# Altium footprint library 温控PCB_0617F.PcbLib: 22 footprints (part 1 of 2)
Each footprint in its own frame and in the unit in brackets; x right, y up, seen from the top. Pads: shape width x height; smd on the part's side, far side on the other; paste and mask are expansions set on the pad; w line width, h text height; cw(c..) or ccw(c..) is an arc to the next point about the centre after c.
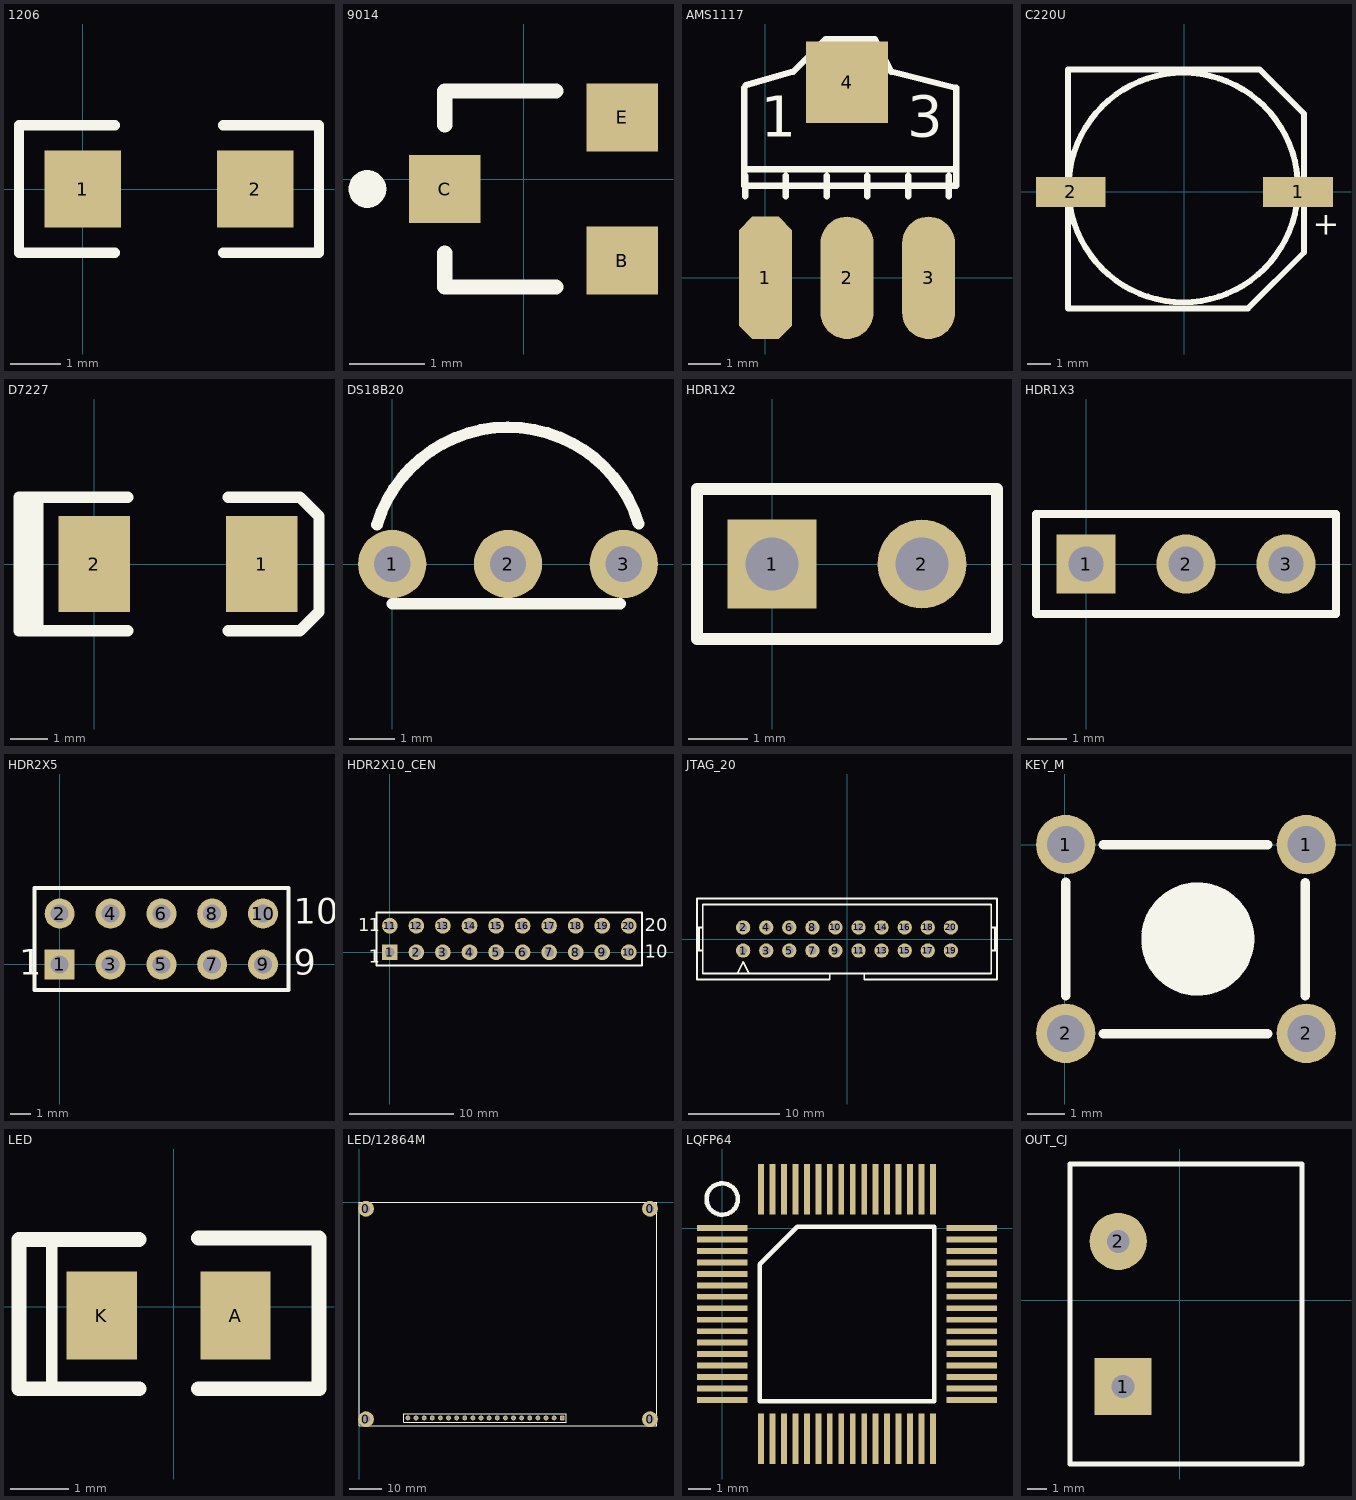
[diagram p0: the footprints below, top view; thin cyan lines are the x and y axes]

## 1206 [mil]
pads (2):
  rect 60x60 smd: 1(0,0) 2(135,0)
Top Overlay:
  lines w8: 25,-50 -50,-50 -50,50 25,50 ; 110,-50 185,-50 185,50 110,50

## 9014 [mm]
pads (3):
  rect 0.95x0.9 smd: B(1.302,-1.077) C(-1.048,-0.127) E(1.302,0.823)
Top Overlay:
  circle w0.25: c-2.073,-0.127 r0.125
  lines w0.2: -1.048,-0.977 -1.048,-1.427 0.427,-1.427 ; -1.048,0.723 -1.048,1.173 0.427,1.173

## AMS1117 [mil]
pads (4):
  oct 65x150 smd: 1(0.03,-0.06)
  oval 65x150 smd: 2(100.03,-0.06) 3(200.03,-0.06)
  rect 100x100 smd: 4(100.03,239.94)
Top Overlay:
  lines w7.87: -25.97,232.94 -25.97,132.94 ; -24.97,99.94 -24.97,124.94 ; -24.3,236.27 34.03,252.94 74.03,292.94 134.03,292.94 154.03,252.94 234.03,232.94 234.03,112.94 ; 25.03,99.94 25.03,124.94 ; 75.03,99.94 75.03,124.94 ; 125.03,99.94 125.03,124.94 ; 175.03,99.94 175.03,124.94 ; 225.03,99.94 225.03,124.94 ; -25.97,132.94 -25.97,112.94 234.03,112.94 ; -25.97,132.94 234.03,132.94 234.03,112.94
  text "1" at -5.97,172.94 h50
  text "3" at 174.03,172.94 h50

## C220U [mm]
pads (2):
  rect 3x1.3 smd: 1(4.889,0) 2(-4.889,0)
Top Overlay:
  circle w0.254: c-0.05,0.191 r4.94
  lines w0.254: -5.016,-5.016 2.603,-5.016 2.73,-5.016 5.143,-2.603 5.143,3.365 3.238,5.271 -5.016,5.271 -5.016,-5.016
  text "+" at 5.524,-1.841 h1

## D7227 [mm]
height 12.8
pads (2):
  rect 1.905x2.54 smd: 1(4.445,0) 2(0,0)
Top Overlay:
  lines w0.305: -1.8,-1.778 -1.8,1.778 ; -1.5,-1.778 -1.5,1.778 ; 0.889,-1.778 -2,-1.778 -2,1.778 0.889,1.778 ; 3.556,-1.778 5.461,-1.778 5.969,-1.27 5.969,1.27 5.461,1.778 3.556,1.778

## DS18B20 [mm]
pads (3):
  round 1.5 hole 0.8: 1(0,0) 2(2.54,0) 3(5.08,0)
Top Overlay:
  lines w0.254: -0.333,0.862 cw(c2.54,0) 5.407,0.885 ; 0,-0.875 5,-0.875

## HDR1X2 [mm] "Connector; Header; 2 Position"
pads (2):
  rect 1.5x1.5 hole 0.9: 1(0,0)
  round 1.5 hole 0.9: 2(2.54,0)
Top Overlay:
  lines w0.2: -1.27,-1.27 3.81,-1.27 3.81,1.27 -1.27,1.27 -1.27,-1.27

## HDR1X3 [mm] "Connector; Header; 3 Position"
pads (3):
  rect 1.5x1.5 hole 0.9: 1(0,0)
  round 1.5 hole 0.9: 2(2.54,0) 3(5.08,0)
Top Overlay:
  lines w0.2: -1.27,-1.27 6.35,-1.27 6.35,1.27 -1.27,1.27 -1.27,-1.27

## HDR2X5 [mm] "Connector; Header; 5x2 Position"
pads (10):
  rect 1.5x1.5 hole 0.9: 1(0,0)
  round 1.5 hole 0.9: 2(0,2.54) 3(2.54,0) 4(2.54,2.54) 5(5.08,0) 6(5.08,2.54) 7(7.62,0) 8(7.62,2.54) 9(10.16,0) 10(10.16,2.54)
Top Overlay:
  lines w0.2: -1.27,-1.27 11.43,-1.27 11.43,3.81 -1.27,3.81 -1.27,-1.27
  text "10" at 11.684,2.032 h1.27
  text "9" at 11.684,-0.508 h1.27
  text "1" at -2.032,-0.508 h1.27

## HDR2X10_CEN [mm] "Connector; Header; 10x2 Position"
pads (20):
  rect 1.5x1.5 hole 0.9: 1(0,0)
  round 1.5 hole 0.9: 2(2.54,0) 3(5.08,0) 4(7.62,0) 5(10.16,0) 6(12.7,0) 7(15.24,0) 8(17.78,0) 9(20.32,0) 10(22.86,0) 11(0,2.54) 12(2.54,2.54) 13(5.08,2.54) 14(7.62,2.54) 15(10.16,2.54) 16(12.7,2.54) 17(15.24,2.54) 18(17.78,2.54) 19(20.32,2.54) 20(22.86,2.54)
Top Overlay:
  lines w0.2: -1.27,-1.27 24.13,-1.27 24.13,3.81 -1.27,3.81 -1.27,-1.27
  text "1" at -2.032,-1.016 h1.27
  text "1" at -3.048,2.032 h1.27
  text "1" at -2.032,2.032 h1.27
  text "10" at 24.384,-0.508 h1.27
  text "20" at 24.384,2.032 h1.27

## JTAG_20 [mil]
pads (20):
  round 62 hole 35: 1(-450,-50) 2(-450,50) 3(-350,-50) 4(-350,50) 5(-250,-50) 6(-250,50) 7(-150,-50) 8(-150,50) 9(-50,-50) 10(-50,50) 11(50,-50) 12(50,50) 13(150,-50) 14(150,50) 15(250,-50) 16(250,50) 17(350,-50) 18(350,50) 19(450,-50) 20(450,50)
Top Overlay:
  lines w8: -650,-50 -625,-50 ; -650,50 -625,50 ; -641.67,-50 -641.67,50 ; -475,-150 -450,-100 -425,-150 ; -339.57,-175 -75,-175 -75,-150 ; -325,-175 -650,-175 -650,175 650,175 650,-175 325,-175 75,-175 75,-150 ; 625,-50 650,-50 ; 625,50 650,50 ; 641.67,-50 641.67,50 ; -75,-150 75,-150 ; -75,-150 -625,-150 -625,150 625,150 625,-150 75,-150

## KEY_M [mm]
pads (4):
  round 1.6 hole 1: 1(0.022,0.007) 1(6.5,0.007) 2(0.022,-5.073) 2(6.5,-5.073)
Top Overlay:
  circle w1.524: c3.578,-2.533 r0.762
  lines w0.254: 0.022,-4.057 0.022,-1.009 ; 1.038,-5.08 5.461,-5.08 ; 1.038,0 5.461,0 ; 6.477,-4.064 6.477,-1.016

## LED [mm]
pads (2):
  rect 1.2x1.5 smd: A(1.057,-0.153) K(-1.229,-0.153)
Top Overlay:
  lines w0.203: -2.286,-1.422 -2.083,-1.422 -2.083,1.143
  lines w0.254: -0.594,-1.403 -2.643,-1.403 -2.643,1.147 -0.594,1.147 ; 0.422,-1.403 2.482,-1.403 2.482,1.172 0.422,1.172
3D body: height 0.55, standoff 0, extent -1.118,-0.803 0.882,0.457

## LED/12864M [mm] "Connector; Header; 20 Position"
pads (24):
  round 5 hole 2.5: 0(2.1,-67.9) 0(2.1,-2.1) 0(90.9,-67.9) 0(90.9,-2.1)
  rrect50% 1.5x1.5 hole 0.9: 1(63.46,-67.5)
  round 1.5 hole 0.9: 2(60.92,-67.5) 3(58.38,-67.5) 4(55.84,-67.5) 5(53.3,-67.5) 6(50.76,-67.5) 7(48.22,-67.5) 8(45.68,-67.5) 9(43.14,-67.5) 10(40.6,-67.5) 11(38.06,-67.5) 12(35.52,-67.5) 13(32.98,-67.5) 14(30.44,-67.5) 15(27.9,-67.5) 16(25.36,-67.5) 17(22.82,-67.5) 18(20.28,-67.5) 19(17.74,-67.5) 20(15.2,-67.5)
Top Overlay:
  lines w0.2: 0,-70 0,0 93,0 93,-70 0,-70 ; 13.93,-68.77 62.825,-68.77 64.73,-68.77 64.73,-66.23 13.93,-66.23 13.93,-68.77

## LQFP64 [mm] "LQFP64"
height 2
pads (64):
  rect 2.2x0.254 smd: 1(0,0) 2(0,-0.5) 3(0,-1) 4(0,-1.5) 5(0,-2) 6(0,-2.5) 7(0,-3) 8(0,-3.5) 9(0,-4) 10(0,-4.5) 11(0,-5) 12(0,-5.5) 13(0,-6) 14(0,-6.5) 15(0,-7) 16(0,-7.5) 33(10.9,-7.5) 34(10.9,-7) 35(10.9,-6.5) 36(10.9,-6) 37(10.9,-5.5) 38(10.9,-5) 39(10.9,-4.5) 40(10.9,-4) 41(10.9,-3.5) 42(10.9,-3) 43(10.9,-2.5) 44(10.9,-2) 45(10.9,-1.5) 46(10.9,-1) 47(10.9,-0.5) 48(10.9,0)
  rect 0.254x2.2 smd: 17(1.7,-9.2) 18(2.2,-9.2) 19(2.7,-9.2) 20(3.2,-9.2) 21(3.7,-9.2) 22(4.2,-9.2) 23(4.7,-9.2) 24(5.2,-9.2) 25(5.7,-9.2) 26(6.2,-9.2) 27(6.7,-9.2) 28(7.2,-9.2) 29(7.7,-9.2) 30(8.2,-9.2) 31(8.7,-9.2) 32(9.2,-9.2) 49(9.2,1.7) 50(8.7,1.7) 51(8.2,1.7) 52(7.7,1.7) 53(7.2,1.7) 54(6.7,1.7) 55(6.2,1.7) 56(5.7,1.7) 57(5.2,1.7) 58(4.7,1.7) 59(4.2,1.7) 60(3.7,1.7) 61(3.2,1.7) 62(2.7,1.7) 63(2.2,1.7) 64(1.7,1.7)
Top Overlay:
  circle w0.2: c0,1.27 r0.684
  lines w0.2: 1.635,-7.565 1.635,-1.57 3.27,0.065 9.265,0.065 9.265,-7.565 1.635,-7.565

## OUT_CJ [mm]
pads (2):
  rect 3x3 hole 1.2: 1(-2.98,-4.536)
  round 3 hole 1.2: 2(-3.234,3.084)
Top Overlay:
  lines w0.254: -5.774,6.132 -5.774,7.148 6.418,7.148 6.418,6.132 ; -5.774,6.64 -5.774,-8.6 ; 6.164,-8.6 -5.774,-8.6 ; 6.418,6.64 6.418,-8.6 -5.774,-8.6